# Altium footprint library Connector_PinHeader_2.00mm.PcbLib: 278 footprints (part 12 of 18)
Each footprint in its own frame and in the unit in brackets; x right, y up, seen from the top. Pads: shape width x height; smd on the part's side, far side on the other; paste and mask are expansions set on the pad; w line width, h text height; cw(c..) or ccw(c..) is an arc to the next point about the centre after c.
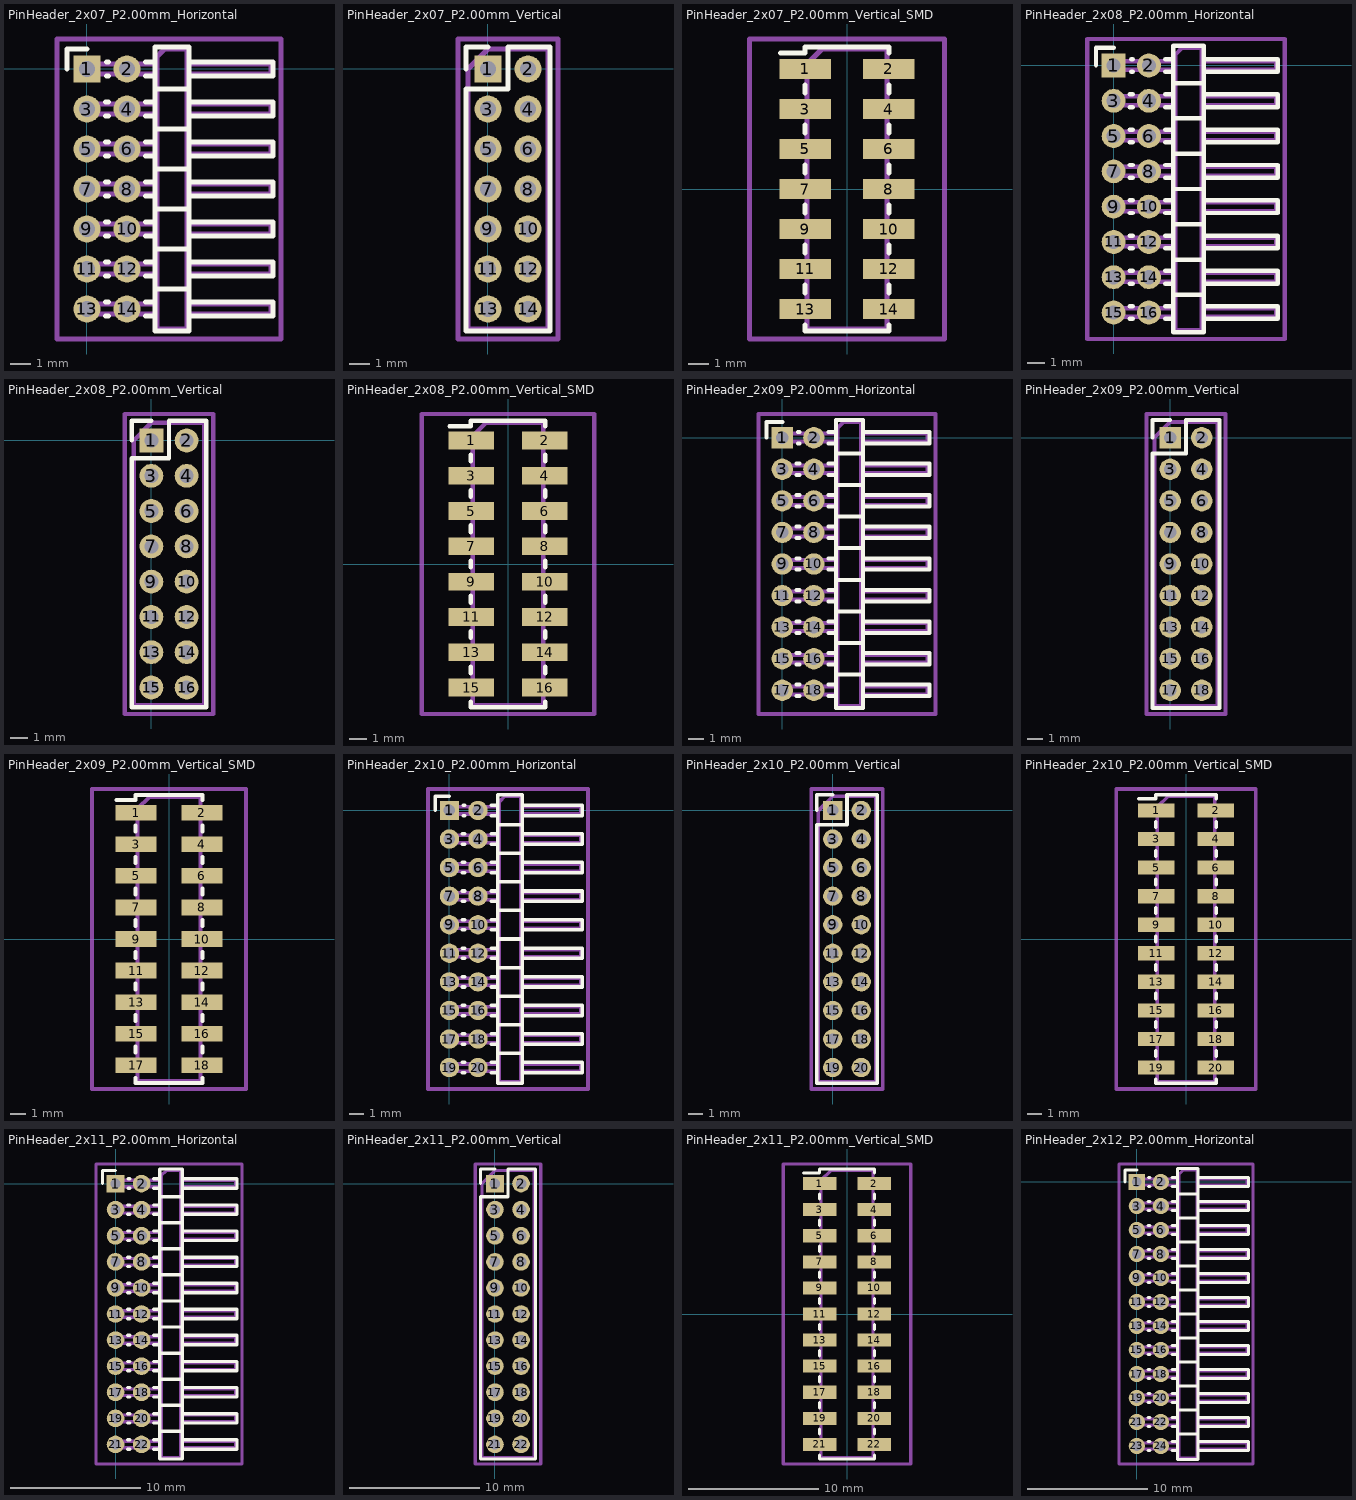
[diagram p11: the footprints below, top view; thin cyan lines are the x and y axes]

## PinHeader_2x07_P2.00mm_Horizontal [mm]
pads (14):
  rect 1.35x1.35 hole 0.8: 1(0,0)
  round 1.35 hole 0.8: 2(2,0) 3(0,-2) 4(2,-2) 5(0,-4) 6(2,-4) 7(0,-6) 8(2,-6) 9(0,-8) 10(2,-8) 11(0,-10) 12(2,-10) 13(0,-12) 14(2,-12)
F.SilkS:
  lines w0.254: -1,0 -1,1 0,1 ; 0.917,-12.36 1.083,-12.36 ; 0.917,-11.64 1.083,-11.64 ; 0.917,-10.36 1.083,-10.36 ; 0.917,-9.64 1.083,-9.64 ; 0.917,-8.36 1.083,-8.36 ; 0.917,-7.64 1.083,-7.64 ; 0.917,-6.36 1.083,-6.36 ; 0.917,-5.64 1.083,-5.64 ; 0.917,-4.36 1.083,-4.36 ; 0.917,-3.64 1.083,-3.64 ; 0.917,-2.36 1.083,-2.36 ; 0.917,-1.64 1.083,-1.64 ; 0.985,-0.36 1.083,-0.36 ; 0.985,0.36 1.083,0.36 ; 2.917,-12.36 3.39,-12.36 ; 2.917,-11.64 3.39,-11.64 ; 2.917,-10.36 3.39,-10.36 ; 2.917,-9.64 3.39,-9.64 ; 2.917,-8.36 3.39,-8.36 ; 2.917,-7.64 3.39,-7.64 ; 2.917,-6.36 3.39,-6.36 ; 2.917,-5.64 3.39,-5.64 ; 2.917,-4.36 3.39,-4.36 ; 2.917,-3.64 3.39,-3.64 ; 2.917,-2.36 3.39,-2.36 ; 2.917,-1.64 3.39,-1.64 ; 2.917,-0.36 3.39,-0.36 ; 2.917,0.36 3.39,0.36 ; 3.39,-11 5.11,-11 ; 3.39,-9 5.11,-9 ; 3.39,-7 5.11,-7 ; 3.39,-5 5.11,-5 ; 3.39,-3 5.11,-3 ; 3.39,-1 5.11,-1 ; 5.11,-12.36 9.31,-12.36 9.31,-11.64 5.11,-11.64 ; 5.11,-10.36 9.31,-10.36 9.31,-9.64 5.11,-9.64 ; 5.11,-8.36 9.31,-8.36 9.31,-7.64 5.11,-7.64 ; 5.11,-6.36 9.31,-6.36 9.31,-5.64 5.11,-5.64 ; 5.11,-4.36 9.31,-4.36 9.31,-3.64 5.11,-3.64 ; 5.11,-2.36 9.31,-2.36 9.31,-1.64 5.11,-1.64 ; 3.39,-13.11 5.11,-13.11 5.11,1.11 3.39,1.11 3.39,-13.11 ; 5.11,-0.36 9.31,-0.36 9.31,0.36 5.11,0.36 5.11,-0.36
Top Assembly:
  lines w0.254: 3.5,-12.25 -0.25,-12.25 -0.25,-11.75 3.5,-11.75 ; 3.5,-10.25 -0.25,-10.25 -0.25,-9.75 3.5,-9.75 ; 3.5,-8.25 -0.25,-8.25 -0.25,-7.75 3.5,-7.75 ; 3.5,-6.25 -0.25,-6.25 -0.25,-5.75 3.5,-5.75 ; 3.5,-4.25 -0.25,-4.25 -0.25,-3.75 3.5,-3.75 ; 3.5,-2.25 -0.25,-2.25 -0.25,-1.75 3.5,-1.75 ; 3.5,-0.25 -0.25,-0.25 -0.25,0.25 3.5,0.25 ; 5,-12.25 9.2,-12.25 9.2,-11.75 5,-11.75 ; 5,-10.25 9.2,-10.25 9.2,-9.75 5,-9.75 ; 5,-8.25 9.2,-8.25 9.2,-7.75 5,-7.75 ; 5,-6.25 9.2,-6.25 9.2,-5.75 5,-5.75 ; 5,-4.25 9.2,-4.25 9.2,-3.75 5,-3.75 ; 5,-2.25 9.2,-2.25 9.2,-1.75 5,-1.75 ; 5,-0.25 9.2,-0.25 9.2,0.25 5,0.25 ; 3.5,-13 5,-13 5,1 3.875,1 3.5,0.625 3.5,-13
  text "'.Designator'" at 5.006,-9.642 h0.9
Top Courtyard:
  lines w0.254: -1.5,-13.5 9.7,-13.5 9.7,1.5 -1.5,1.5 -1.5,-13.5
Top Designator:
  text ".Designator" at -3.518,-6.508 h1.52

## PinHeader_2x07_P2.00mm_Vertical [mm]
pads (14):
  rect 1.35x1.35 hole 0.8: 1(0,0)
  round 1.35 hole 0.8: 2(2,0) 3(0,-2) 4(2,-2) 5(0,-4) 6(2,-4) 7(0,-6) 8(2,-6) 9(0,-8) 10(2,-8) 11(0,-10) 12(2,-10) 13(0,-12) 14(2,-12)
F.SilkS:
  lines w0.254: -1.11,0 -1.11,1.11 0,1.11 ; -1.11,-13.11 3.11,-13.11 3.11,1.11 1,1.11 1,-1 -1.11,-1 -1.11,-13.11
Top Assembly:
  lines w0.254: -1,-13 3,-13 3,1 0,1 -1,0 -1,-13
  text "'.Designator'" at 1.84,-10.047 h1
Top Courtyard:
  lines w0.254: -1.5,-13.5 3.5,-13.5 3.5,1.5 -1.5,1.5 -1.5,-13.5
Top Designator:
  text ".Designator" at -6.618,-6.508 h1.52

## PinHeader_2x07_P2.00mm_Vertical_SMD [mm]
pads (14):
  rect 2.58x1 smd: 1(-2.085,6) 2(2.085,6) 3(-2.085,4) 4(2.085,4) 5(-2.085,2) 6(2.085,2) 7(-2.085,0) 8(2.085,0) 9(-2.085,-2) 10(2.085,-2) 11(-2.085,-4) 12(2.085,-4) 13(-2.085,-6) 14(2.085,-6)
F.SilkS:
  lines w0.254: -3.315,6.81 -2.11,6.81 -2.11,7.11 2.11,7.11 2.11,6.81 ; -2.11,-6.81 -2.11,-7.11 2.11,-7.11 2.11,-6.81 ; -2.11,-5.19 -2.11,-4.81 ; -2.11,-3.19 -2.11,-2.81 ; -2.11,-1.19 -2.11,-0.81 ; -2.11,0.81 -2.11,1.19 ; -2.11,2.81 -2.11,3.19 ; -2.11,4.81 -2.11,5.19 ; 2.11,-5.19 2.11,-4.81 ; 2.11,-3.19 2.11,-2.81 ; 2.11,-1.19 2.11,-0.81 ; 2.11,0.81 2.11,1.19 ; 2.11,2.81 2.11,3.19 ; 2.11,4.81 2.11,5.19
Top Assembly:
  lines w0.254: -2,-6.25 -2.875,-6.25 -2.875,-5.75 -2,-5.75 ; -2,-4.25 -2.875,-4.25 -2.875,-3.75 -2,-3.75 ; -2,-2.25 -2.875,-2.25 -2.875,-1.75 -2,-1.75 ; -2,-0.25 -2.875,-0.25 -2.875,0.25 -2,0.25 ; -2,1.75 -2.875,1.75 -2.875,2.25 -2,2.25 ; -2,3.75 -2.875,3.75 -2.875,4.25 -2,4.25 ; -2,5.75 -2.875,5.75 -2.875,6.25 -2,6.25 ; 2,-6.25 2.875,-6.25 2.875,-5.75 2,-5.75 ; 2,-4.25 2.875,-4.25 2.875,-3.75 2,-3.75 ; 2,-2.25 2.875,-2.25 2.875,-1.75 2,-1.75 ; 2,-0.25 2.875,-0.25 2.875,0.25 2,0.25 ; 2,1.75 2.875,1.75 2.875,2.25 2,2.25 ; 2,3.75 2.875,3.75 2.875,4.25 2,4.25 ; 2,5.75 2.875,5.75 2.875,6.25 2,6.25 ; -2,6.25 -2,-7 2,-7 2,7 -1.25,7 -2,6.25
  text "'.Designator'" at 0.84,-4.047 h1
Top Courtyard:
  lines w0.254: -4.88,-7.5 4.88,-7.5 4.88,7.5 -4.88,7.5 -4.88,-7.5
Top Designator:
  text ".Designator" at -7.618,-0.508 h1.52

## PinHeader_2x08_P2.00mm_Horizontal [mm]
pads (16):
  rect 1.35x1.35 hole 0.8: 1(0,0)
  round 1.35 hole 0.8: 2(2,0) 3(0,-2) 4(2,-2) 5(0,-4) 6(2,-4) 7(0,-6) 8(2,-6) 9(0,-8) 10(2,-8) 11(0,-10) 12(2,-10) 13(0,-12) 14(2,-12) 15(0,-14) 16(2,-14)
F.SilkS:
  lines w0.254: -1,0 -1,1 0,1 ; 0.917,-14.36 1.083,-14.36 ; 0.917,-13.64 1.083,-13.64 ; 0.917,-12.36 1.083,-12.36 ; 0.917,-11.64 1.083,-11.64 ; 0.917,-10.36 1.083,-10.36 ; 0.917,-9.64 1.083,-9.64 ; 0.917,-8.36 1.083,-8.36 ; 0.917,-7.64 1.083,-7.64 ; 0.917,-6.36 1.083,-6.36 ; 0.917,-5.64 1.083,-5.64 ; 0.917,-4.36 1.083,-4.36 ; 0.917,-3.64 1.083,-3.64 ; 0.917,-2.36 1.083,-2.36 ; 0.917,-1.64 1.083,-1.64 ; 0.985,-0.36 1.083,-0.36 ; 0.985,0.36 1.083,0.36 ; 2.917,-14.36 3.39,-14.36 ; 2.917,-13.64 3.39,-13.64 ; 2.917,-12.36 3.39,-12.36 ; 2.917,-11.64 3.39,-11.64 ; 2.917,-10.36 3.39,-10.36 ; 2.917,-9.64 3.39,-9.64 ; 2.917,-8.36 3.39,-8.36 ; 2.917,-7.64 3.39,-7.64 ; 2.917,-6.36 3.39,-6.36 ; 2.917,-5.64 3.39,-5.64 ; 2.917,-4.36 3.39,-4.36 ; 2.917,-3.64 3.39,-3.64 ; 2.917,-2.36 3.39,-2.36 ; 2.917,-1.64 3.39,-1.64 ; 2.917,-0.36 3.39,-0.36 ; 2.917,0.36 3.39,0.36 ; 3.39,-13 5.11,-13 ; 3.39,-11 5.11,-11 ; 3.39,-9 5.11,-9 ; 3.39,-7 5.11,-7 ; 3.39,-5 5.11,-5 ; 3.39,-3 5.11,-3 ; 3.39,-1 5.11,-1 ; 5.11,-14.36 9.31,-14.36 9.31,-13.64 5.11,-13.64 ; 5.11,-12.36 9.31,-12.36 9.31,-11.64 5.11,-11.64 ; 5.11,-10.36 9.31,-10.36 9.31,-9.64 5.11,-9.64 ; 5.11,-8.36 9.31,-8.36 9.31,-7.64 5.11,-7.64 ; 5.11,-6.36 9.31,-6.36 9.31,-5.64 5.11,-5.64 ; 5.11,-4.36 9.31,-4.36 9.31,-3.64 5.11,-3.64 ; 5.11,-2.36 9.31,-2.36 9.31,-1.64 5.11,-1.64 ; 3.39,-15.11 5.11,-15.11 5.11,1.11 3.39,1.11 3.39,-15.11 ; 5.11,-0.36 9.31,-0.36 9.31,0.36 5.11,0.36 5.11,-0.36
Top Assembly:
  lines w0.254: 3.5,-14.25 -0.25,-14.25 -0.25,-13.75 3.5,-13.75 ; 3.5,-12.25 -0.25,-12.25 -0.25,-11.75 3.5,-11.75 ; 3.5,-10.25 -0.25,-10.25 -0.25,-9.75 3.5,-9.75 ; 3.5,-8.25 -0.25,-8.25 -0.25,-7.75 3.5,-7.75 ; 3.5,-6.25 -0.25,-6.25 -0.25,-5.75 3.5,-5.75 ; 3.5,-4.25 -0.25,-4.25 -0.25,-3.75 3.5,-3.75 ; 3.5,-2.25 -0.25,-2.25 -0.25,-1.75 3.5,-1.75 ; 3.5,-0.25 -0.25,-0.25 -0.25,0.25 3.5,0.25 ; 5,-14.25 9.2,-14.25 9.2,-13.75 5,-13.75 ; 5,-12.25 9.2,-12.25 9.2,-11.75 5,-11.75 ; 5,-10.25 9.2,-10.25 9.2,-9.75 5,-9.75 ; 5,-8.25 9.2,-8.25 9.2,-7.75 5,-7.75 ; 5,-6.25 9.2,-6.25 9.2,-5.75 5,-5.75 ; 5,-4.25 9.2,-4.25 9.2,-3.75 5,-3.75 ; 5,-2.25 9.2,-2.25 9.2,-1.75 5,-1.75 ; 5,-0.25 9.2,-0.25 9.2,0.25 5,0.25 ; 3.5,-15 5,-15 5,1 3.875,1 3.5,0.625 3.5,-15
  text "'.Designator'" at 5.006,-10.642 h0.9
Top Courtyard:
  lines w0.254: -1.5,-15.5 9.7,-15.5 9.7,1.5 -1.5,1.5 -1.5,-15.5
Top Designator:
  text ".Designator" at -3.518,-7.508 h1.52

## PinHeader_2x08_P2.00mm_Vertical [mm]
pads (16):
  rect 1.35x1.35 hole 0.8: 1(0,0)
  round 1.35 hole 0.8: 2(2,0) 3(0,-2) 4(2,-2) 5(0,-4) 6(2,-4) 7(0,-6) 8(2,-6) 9(0,-8) 10(2,-8) 11(0,-10) 12(2,-10) 13(0,-12) 14(2,-12) 15(0,-14) 16(2,-14)
F.SilkS:
  lines w0.254: -1.11,0 -1.11,1.11 0,1.11 ; -1.11,-15.11 3.11,-15.11 3.11,1.11 1,1.11 1,-1 -1.11,-1 -1.11,-15.11
Top Assembly:
  lines w0.254: -1,-15 3,-15 3,1 0,1 -1,0 -1,-15
  text "'.Designator'" at 1.84,-11.047 h1
Top Courtyard:
  lines w0.254: -1.5,-15.5 3.5,-15.5 3.5,1.5 -1.5,1.5 -1.5,-15.5
Top Designator:
  text ".Designator" at -6.618,-7.508 h1.52

## PinHeader_2x08_P2.00mm_Vertical_SMD [mm]
pads (16):
  rect 2.58x1 smd: 1(-2.085,7) 2(2.085,7) 3(-2.085,5) 4(2.085,5) 5(-2.085,3) 6(2.085,3) 7(-2.085,1) 8(2.085,1) 9(-2.085,-1) 10(2.085,-1) 11(-2.085,-3) 12(2.085,-3) 13(-2.085,-5) 14(2.085,-5) 15(-2.085,-7) 16(2.085,-7)
F.SilkS:
  lines w0.254: -3.315,7.81 -2.11,7.81 -2.11,8.11 2.11,8.11 2.11,7.81 ; -2.11,-7.81 -2.11,-8.11 2.11,-8.11 2.11,-7.81 ; -2.11,-6.19 -2.11,-5.81 ; -2.11,-4.19 -2.11,-3.81 ; -2.11,-2.19 -2.11,-1.81 ; -2.11,-0.19 -2.11,0.19 ; -2.11,1.81 -2.11,2.19 ; -2.11,3.81 -2.11,4.19 ; -2.11,5.81 -2.11,6.19 ; 2.11,-6.19 2.11,-5.81 ; 2.11,-4.19 2.11,-3.81 ; 2.11,-2.19 2.11,-1.81 ; 2.11,-0.19 2.11,0.19 ; 2.11,1.81 2.11,2.19 ; 2.11,3.81 2.11,4.19 ; 2.11,5.81 2.11,6.19
Top Assembly:
  lines w0.254: -2,-7.25 -2.875,-7.25 -2.875,-6.75 -2,-6.75 ; -2,-5.25 -2.875,-5.25 -2.875,-4.75 -2,-4.75 ; -2,-3.25 -2.875,-3.25 -2.875,-2.75 -2,-2.75 ; -2,-1.25 -2.875,-1.25 -2.875,-0.75 -2,-0.75 ; -2,0.75 -2.875,0.75 -2.875,1.25 -2,1.25 ; -2,2.75 -2.875,2.75 -2.875,3.25 -2,3.25 ; -2,4.75 -2.875,4.75 -2.875,5.25 -2,5.25 ; -2,6.75 -2.875,6.75 -2.875,7.25 -2,7.25 ; 2,-7.25 2.875,-7.25 2.875,-6.75 2,-6.75 ; 2,-5.25 2.875,-5.25 2.875,-4.75 2,-4.75 ; 2,-3.25 2.875,-3.25 2.875,-2.75 2,-2.75 ; 2,-1.25 2.875,-1.25 2.875,-0.75 2,-0.75 ; 2,0.75 2.875,0.75 2.875,1.25 2,1.25 ; 2,2.75 2.875,2.75 2.875,3.25 2,3.25 ; 2,4.75 2.875,4.75 2.875,5.25 2,5.25 ; 2,6.75 2.875,6.75 2.875,7.25 2,7.25 ; -2,7.25 -2,-8 2,-8 2,8 -1.25,8 -2,7.25
  text "'.Designator'" at 0.84,-4.047 h1
Top Courtyard:
  lines w0.254: -4.88,-8.5 4.88,-8.5 4.88,8.5 -4.88,8.5 -4.88,-8.5
Top Designator:
  text ".Designator" at -7.618,-0.508 h1.52

## PinHeader_2x09_P2.00mm_Horizontal [mm]
pads (18):
  rect 1.35x1.35 hole 0.8: 1(0,0)
  round 1.35 hole 0.8: 2(2,0) 3(0,-2) 4(2,-2) 5(0,-4) 6(2,-4) 7(0,-6) 8(2,-6) 9(0,-8) 10(2,-8) 11(0,-10) 12(2,-10) 13(0,-12) 14(2,-12) 15(0,-14) 16(2,-14) 17(0,-16) 18(2,-16)
F.SilkS:
  lines w0.254: -1,0 -1,1 0,1 ; 0.917,-16.36 1.083,-16.36 ; 0.917,-15.64 1.083,-15.64 ; 0.917,-14.36 1.083,-14.36 ; 0.917,-13.64 1.083,-13.64 ; 0.917,-12.36 1.083,-12.36 ; 0.917,-11.64 1.083,-11.64 ; 0.917,-10.36 1.083,-10.36 ; 0.917,-9.64 1.083,-9.64 ; 0.917,-8.36 1.083,-8.36 ; 0.917,-7.64 1.083,-7.64 ; 0.917,-6.36 1.083,-6.36 ; 0.917,-5.64 1.083,-5.64 ; 0.917,-4.36 1.083,-4.36 ; 0.917,-3.64 1.083,-3.64 ; 0.917,-2.36 1.083,-2.36 ; 0.917,-1.64 1.083,-1.64 ; 0.985,-0.36 1.083,-0.36 ; 0.985,0.36 1.083,0.36 ; 2.917,-16.36 3.39,-16.36 ; 2.917,-15.64 3.39,-15.64 ; 2.917,-14.36 3.39,-14.36 ; 2.917,-13.64 3.39,-13.64 ; 2.917,-12.36 3.39,-12.36 ; 2.917,-11.64 3.39,-11.64 ; 2.917,-10.36 3.39,-10.36 ; 2.917,-9.64 3.39,-9.64 ; 2.917,-8.36 3.39,-8.36 ; 2.917,-7.64 3.39,-7.64 ; 2.917,-6.36 3.39,-6.36 ; 2.917,-5.64 3.39,-5.64 ; 2.917,-4.36 3.39,-4.36 ; 2.917,-3.64 3.39,-3.64 ; 2.917,-2.36 3.39,-2.36 ; 2.917,-1.64 3.39,-1.64 ; 2.917,-0.36 3.39,-0.36 ; 2.917,0.36 3.39,0.36 ; 3.39,-15 5.11,-15 ; 3.39,-13 5.11,-13 ; 3.39,-11 5.11,-11 ; 3.39,-9 5.11,-9 ; 3.39,-7 5.11,-7 ; 3.39,-5 5.11,-5 ; 3.39,-3 5.11,-3 ; 3.39,-1 5.11,-1 ; 5.11,-16.36 9.31,-16.36 9.31,-15.64 5.11,-15.64 ; 5.11,-14.36 9.31,-14.36 9.31,-13.64 5.11,-13.64 ; 5.11,-12.36 9.31,-12.36 9.31,-11.64 5.11,-11.64 ; 5.11,-10.36 9.31,-10.36 9.31,-9.64 5.11,-9.64 ; 5.11,-8.36 9.31,-8.36 9.31,-7.64 5.11,-7.64 ; 5.11,-6.36 9.31,-6.36 9.31,-5.64 5.11,-5.64 ; 5.11,-4.36 9.31,-4.36 9.31,-3.64 5.11,-3.64 ; 5.11,-2.36 9.31,-2.36 9.31,-1.64 5.11,-1.64 ; 3.39,-17.11 5.11,-17.11 5.11,1.11 3.39,1.11 3.39,-17.11 ; 5.11,-0.36 9.31,-0.36 9.31,0.36 5.11,0.36 5.11,-0.36
Top Assembly:
  lines w0.254: 3.5,-16.25 -0.25,-16.25 -0.25,-15.75 3.5,-15.75 ; 3.5,-14.25 -0.25,-14.25 -0.25,-13.75 3.5,-13.75 ; 3.5,-12.25 -0.25,-12.25 -0.25,-11.75 3.5,-11.75 ; 3.5,-10.25 -0.25,-10.25 -0.25,-9.75 3.5,-9.75 ; 3.5,-8.25 -0.25,-8.25 -0.25,-7.75 3.5,-7.75 ; 3.5,-6.25 -0.25,-6.25 -0.25,-5.75 3.5,-5.75 ; 3.5,-4.25 -0.25,-4.25 -0.25,-3.75 3.5,-3.75 ; 3.5,-2.25 -0.25,-2.25 -0.25,-1.75 3.5,-1.75 ; 3.5,-0.25 -0.25,-0.25 -0.25,0.25 3.5,0.25 ; 5,-16.25 9.2,-16.25 9.2,-15.75 5,-15.75 ; 5,-14.25 9.2,-14.25 9.2,-13.75 5,-13.75 ; 5,-12.25 9.2,-12.25 9.2,-11.75 5,-11.75 ; 5,-10.25 9.2,-10.25 9.2,-9.75 5,-9.75 ; 5,-8.25 9.2,-8.25 9.2,-7.75 5,-7.75 ; 5,-6.25 9.2,-6.25 9.2,-5.75 5,-5.75 ; 5,-4.25 9.2,-4.25 9.2,-3.75 5,-3.75 ; 5,-2.25 9.2,-2.25 9.2,-1.75 5,-1.75 ; 5,-0.25 9.2,-0.25 9.2,0.25 5,0.25 ; 3.5,-17 5,-17 5,1 3.875,1 3.5,0.625 3.5,-17
  text "'.Designator'" at 5.006,-11.642 h0.9
Top Courtyard:
  lines w0.254: -1.5,-17.5 9.7,-17.5 9.7,1.5 -1.5,1.5 -1.5,-17.5
Top Designator:
  text ".Designator" at -3.518,-8.508 h1.52

## PinHeader_2x09_P2.00mm_Vertical [mm]
pads (18):
  rect 1.35x1.35 hole 0.8: 1(0,0)
  round 1.35 hole 0.8: 2(2,0) 3(0,-2) 4(2,-2) 5(0,-4) 6(2,-4) 7(0,-6) 8(2,-6) 9(0,-8) 10(2,-8) 11(0,-10) 12(2,-10) 13(0,-12) 14(2,-12) 15(0,-14) 16(2,-14) 17(0,-16) 18(2,-16)
F.SilkS:
  lines w0.254: -1.11,0 -1.11,1.11 0,1.11 ; -1.11,-17.11 3.11,-17.11 3.11,1.11 1,1.11 1,-1 -1.11,-1 -1.11,-17.11
Top Assembly:
  lines w0.254: -1,-17 3,-17 3,1 0,1 -1,0 -1,-17
  text "'.Designator'" at 1.84,-12.047 h1
Top Courtyard:
  lines w0.254: -1.5,-17.5 3.5,-17.5 3.5,1.5 -1.5,1.5 -1.5,-17.5
Top Designator:
  text ".Designator" at -6.618,-8.508 h1.52

## PinHeader_2x09_P2.00mm_Vertical_SMD [mm]
pads (18):
  rect 2.58x1 smd: 1(-2.085,8) 2(2.085,8) 3(-2.085,6) 4(2.085,6) 5(-2.085,4) 6(2.085,4) 7(-2.085,2) 8(2.085,2) 9(-2.085,0) 10(2.085,0) 11(-2.085,-2) 12(2.085,-2) 13(-2.085,-4) 14(2.085,-4) 15(-2.085,-6) 16(2.085,-6) 17(-2.085,-8) 18(2.085,-8)
F.SilkS:
  lines w0.254: -3.315,8.81 -2.11,8.81 -2.11,9.11 2.11,9.11 2.11,8.81 ; -2.11,-8.81 -2.11,-9.11 2.11,-9.11 2.11,-8.81 ; -2.11,-7.19 -2.11,-6.81 ; -2.11,-5.19 -2.11,-4.81 ; -2.11,-3.19 -2.11,-2.81 ; -2.11,-1.19 -2.11,-0.81 ; -2.11,0.81 -2.11,1.19 ; -2.11,2.81 -2.11,3.19 ; -2.11,4.81 -2.11,5.19 ; -2.11,6.81 -2.11,7.19 ; 2.11,-7.19 2.11,-6.81 ; 2.11,-5.19 2.11,-4.81 ; 2.11,-3.19 2.11,-2.81 ; 2.11,-1.19 2.11,-0.81 ; 2.11,0.81 2.11,1.19 ; 2.11,2.81 2.11,3.19 ; 2.11,4.81 2.11,5.19 ; 2.11,6.81 2.11,7.19
Top Assembly:
  lines w0.254: -2,-8.25 -2.875,-8.25 -2.875,-7.75 -2,-7.75 ; -2,-6.25 -2.875,-6.25 -2.875,-5.75 -2,-5.75 ; -2,-4.25 -2.875,-4.25 -2.875,-3.75 -2,-3.75 ; -2,-2.25 -2.875,-2.25 -2.875,-1.75 -2,-1.75 ; -2,-0.25 -2.875,-0.25 -2.875,0.25 -2,0.25 ; -2,1.75 -2.875,1.75 -2.875,2.25 -2,2.25 ; -2,3.75 -2.875,3.75 -2.875,4.25 -2,4.25 ; -2,5.75 -2.875,5.75 -2.875,6.25 -2,6.25 ; -2,7.75 -2.875,7.75 -2.875,8.25 -2,8.25 ; 2,-8.25 2.875,-8.25 2.875,-7.75 2,-7.75 ; 2,-6.25 2.875,-6.25 2.875,-5.75 2,-5.75 ; 2,-4.25 2.875,-4.25 2.875,-3.75 2,-3.75 ; 2,-2.25 2.875,-2.25 2.875,-1.75 2,-1.75 ; 2,-0.25 2.875,-0.25 2.875,0.25 2,0.25 ; 2,1.75 2.875,1.75 2.875,2.25 2,2.25 ; 2,3.75 2.875,3.75 2.875,4.25 2,4.25 ; 2,5.75 2.875,5.75 2.875,6.25 2,6.25 ; 2,7.75 2.875,7.75 2.875,8.25 2,8.25 ; -2,8.25 -2,-9 2,-9 2,9 -1.25,9 -2,8.25
  text "'.Designator'" at 0.84,-4.047 h1
Top Courtyard:
  lines w0.254: -4.88,-9.5 4.88,-9.5 4.88,9.5 -4.88,9.5 -4.88,-9.5
Top Designator:
  text ".Designator" at -7.618,-0.508 h1.52

## PinHeader_2x10_P2.00mm_Horizontal [mm]
pads (20):
  rect 1.35x1.35 hole 0.8: 1(0,0)
  round 1.35 hole 0.8: 2(2,0) 3(0,-2) 4(2,-2) 5(0,-4) 6(2,-4) 7(0,-6) 8(2,-6) 9(0,-8) 10(2,-8) 11(0,-10) 12(2,-10) 13(0,-12) 14(2,-12) 15(0,-14) 16(2,-14) 17(0,-16) 18(2,-16) 19(0,-18) 20(2,-18)
F.SilkS:
  lines w0.254: -1,0 -1,1 0,1 ; 0.917,-18.36 1.083,-18.36 ; 0.917,-17.64 1.083,-17.64 ; 0.917,-16.36 1.083,-16.36 ; 0.917,-15.64 1.083,-15.64 ; 0.917,-14.36 1.083,-14.36 ; 0.917,-13.64 1.083,-13.64 ; 0.917,-12.36 1.083,-12.36 ; 0.917,-11.64 1.083,-11.64 ; 0.917,-10.36 1.083,-10.36 ; 0.917,-9.64 1.083,-9.64 ; 0.917,-8.36 1.083,-8.36 ; 0.917,-7.64 1.083,-7.64 ; 0.917,-6.36 1.083,-6.36 ; 0.917,-5.64 1.083,-5.64 ; 0.917,-4.36 1.083,-4.36 ; 0.917,-3.64 1.083,-3.64 ; 0.917,-2.36 1.083,-2.36 ; 0.917,-1.64 1.083,-1.64 ; 0.985,-0.36 1.083,-0.36 ; 0.985,0.36 1.083,0.36 ; 2.917,-18.36 3.39,-18.36 ; 2.917,-17.64 3.39,-17.64 ; 2.917,-16.36 3.39,-16.36 ; 2.917,-15.64 3.39,-15.64 ; 2.917,-14.36 3.39,-14.36 ; 2.917,-13.64 3.39,-13.64 ; 2.917,-12.36 3.39,-12.36 ; 2.917,-11.64 3.39,-11.64 ; 2.917,-10.36 3.39,-10.36 ; 2.917,-9.64 3.39,-9.64 ; 2.917,-8.36 3.39,-8.36 ; 2.917,-7.64 3.39,-7.64 ; 2.917,-6.36 3.39,-6.36 ; 2.917,-5.64 3.39,-5.64 ; 2.917,-4.36 3.39,-4.36 ; 2.917,-3.64 3.39,-3.64 ; 2.917,-2.36 3.39,-2.36 ; 2.917,-1.64 3.39,-1.64 ; 2.917,-0.36 3.39,-0.36 ; 2.917,0.36 3.39,0.36 ; 3.39,-17 5.11,-17 ; 3.39,-15 5.11,-15 ; 3.39,-13 5.11,-13 ; 3.39,-11 5.11,-11 ; 3.39,-9 5.11,-9 ; 3.39,-7 5.11,-7 ; 3.39,-5 5.11,-5 ; 3.39,-3 5.11,-3 ; 3.39,-1 5.11,-1 ; 5.11,-18.36 9.31,-18.36 9.31,-17.64 5.11,-17.64 ; 5.11,-16.36 9.31,-16.36 9.31,-15.64 5.11,-15.64 ; 5.11,-14.36 9.31,-14.36 9.31,-13.64 5.11,-13.64 ; 5.11,-12.36 9.31,-12.36 9.31,-11.64 5.11,-11.64 ; 5.11,-10.36 9.31,-10.36 9.31,-9.64 5.11,-9.64 ; 5.11,-8.36 9.31,-8.36 9.31,-7.64 5.11,-7.64 ; 5.11,-6.36 9.31,-6.36 9.31,-5.64 5.11,-5.64 ; 5.11,-4.36 9.31,-4.36 9.31,-3.64 5.11,-3.64 ; 5.11,-2.36 9.31,-2.36 9.31,-1.64 5.11,-1.64 ; 3.39,-19.11 5.11,-19.11 5.11,1.11 3.39,1.11 3.39,-19.11 ; 5.11,-0.36 9.31,-0.36 9.31,0.36 5.11,0.36 5.11,-0.36
Top Assembly:
  lines w0.254: 3.5,-18.25 -0.25,-18.25 -0.25,-17.75 3.5,-17.75 ; 3.5,-16.25 -0.25,-16.25 -0.25,-15.75 3.5,-15.75 ; 3.5,-14.25 -0.25,-14.25 -0.25,-13.75 3.5,-13.75 ; 3.5,-12.25 -0.25,-12.25 -0.25,-11.75 3.5,-11.75 ; 3.5,-10.25 -0.25,-10.25 -0.25,-9.75 3.5,-9.75 ; 3.5,-8.25 -0.25,-8.25 -0.25,-7.75 3.5,-7.75 ; 3.5,-6.25 -0.25,-6.25 -0.25,-5.75 3.5,-5.75 ; 3.5,-4.25 -0.25,-4.25 -0.25,-3.75 3.5,-3.75 ; 3.5,-2.25 -0.25,-2.25 -0.25,-1.75 3.5,-1.75 ; 3.5,-0.25 -0.25,-0.25 -0.25,0.25 3.5,0.25 ; 5,-18.25 9.2,-18.25 9.2,-17.75 5,-17.75 ; 5,-16.25 9.2,-16.25 9.2,-15.75 5,-15.75 ; 5,-14.25 9.2,-14.25 9.2,-13.75 5,-13.75 ; 5,-12.25 9.2,-12.25 9.2,-11.75 5,-11.75 ; 5,-10.25 9.2,-10.25 9.2,-9.75 5,-9.75 ; 5,-8.25 9.2,-8.25 9.2,-7.75 5,-7.75 ; 5,-6.25 9.2,-6.25 9.2,-5.75 5,-5.75 ; 5,-4.25 9.2,-4.25 9.2,-3.75 5,-3.75 ; 5,-2.25 9.2,-2.25 9.2,-1.75 5,-1.75 ; 5,-0.25 9.2,-0.25 9.2,0.25 5,0.25 ; 3.5,-19 5,-19 5,1 3.875,1 3.5,0.625 3.5,-19
  text "'.Designator'" at 5.006,-12.642 h0.9
Top Courtyard:
  lines w0.254: -1.5,-19.5 9.7,-19.5 9.7,1.5 -1.5,1.5 -1.5,-19.5
Top Designator:
  text ".Designator" at -3.518,-9.508 h1.52

## PinHeader_2x10_P2.00mm_Vertical [mm]
pads (20):
  rect 1.35x1.35 hole 0.8: 1(0,0)
  round 1.35 hole 0.8: 2(2,0) 3(0,-2) 4(2,-2) 5(0,-4) 6(2,-4) 7(0,-6) 8(2,-6) 9(0,-8) 10(2,-8) 11(0,-10) 12(2,-10) 13(0,-12) 14(2,-12) 15(0,-14) 16(2,-14) 17(0,-16) 18(2,-16) 19(0,-18) 20(2,-18)
F.SilkS:
  lines w0.254: -1.11,0 -1.11,1.11 0,1.11 ; -1.11,-19.11 3.11,-19.11 3.11,1.11 1,1.11 1,-1 -1.11,-1 -1.11,-19.11
Top Assembly:
  lines w0.254: -1,-19 3,-19 3,1 0,1 -1,0 -1,-19
  text "'.Designator'" at 1.84,-13.047 h1
Top Courtyard:
  lines w0.254: -1.5,-19.5 3.5,-19.5 3.5,1.5 -1.5,1.5 -1.5,-19.5
Top Designator:
  text ".Designator" at -6.618,-9.508 h1.52

## PinHeader_2x10_P2.00mm_Vertical_SMD [mm]
pads (20):
  rect 2.58x1 smd: 1(-2.085,9) 2(2.085,9) 3(-2.085,7) 4(2.085,7) 5(-2.085,5) 6(2.085,5) 7(-2.085,3) 8(2.085,3) 9(-2.085,1) 10(2.085,1) 11(-2.085,-1) 12(2.085,-1) 13(-2.085,-3) 14(2.085,-3) 15(-2.085,-5) 16(2.085,-5) 17(-2.085,-7) 18(2.085,-7) 19(-2.085,-9) 20(2.085,-9)
F.SilkS:
  lines w0.254: -3.315,9.81 -2.11,9.81 -2.11,10.11 2.11,10.11 2.11,9.81 ; -2.11,-9.81 -2.11,-10.11 2.11,-10.11 2.11,-9.81 ; -2.11,-8.19 -2.11,-7.81 ; -2.11,-6.19 -2.11,-5.81 ; -2.11,-4.19 -2.11,-3.81 ; -2.11,-2.19 -2.11,-1.81 ; -2.11,-0.19 -2.11,0.19 ; -2.11,1.81 -2.11,2.19 ; -2.11,3.81 -2.11,4.19 ; -2.11,5.81 -2.11,6.19 ; -2.11,7.81 -2.11,8.19 ; 2.11,-8.19 2.11,-7.81 ; 2.11,-6.19 2.11,-5.81 ; 2.11,-4.19 2.11,-3.81 ; 2.11,-2.19 2.11,-1.81 ; 2.11,-0.19 2.11,0.19 ; 2.11,1.81 2.11,2.19 ; 2.11,3.81 2.11,4.19 ; 2.11,5.81 2.11,6.19 ; 2.11,7.81 2.11,8.19
Top Assembly:
  lines w0.254: -2,-9.25 -2.875,-9.25 -2.875,-8.75 -2,-8.75 ; -2,-7.25 -2.875,-7.25 -2.875,-6.75 -2,-6.75 ; -2,-5.25 -2.875,-5.25 -2.875,-4.75 -2,-4.75 ; -2,-3.25 -2.875,-3.25 -2.875,-2.75 -2,-2.75 ; -2,-1.25 -2.875,-1.25 -2.875,-0.75 -2,-0.75 ; -2,0.75 -2.875,0.75 -2.875,1.25 -2,1.25 ; -2,2.75 -2.875,2.75 -2.875,3.25 -2,3.25 ; -2,4.75 -2.875,4.75 -2.875,5.25 -2,5.25 ; -2,6.75 -2.875,6.75 -2.875,7.25 -2,7.25 ; -2,8.75 -2.875,8.75 -2.875,9.25 -2,9.25 ; 2,-9.25 2.875,-9.25 2.875,-8.75 2,-8.75 ; 2,-7.25 2.875,-7.25 2.875,-6.75 2,-6.75 ; 2,-5.25 2.875,-5.25 2.875,-4.75 2,-4.75 ; 2,-3.25 2.875,-3.25 2.875,-2.75 2,-2.75 ; 2,-1.25 2.875,-1.25 2.875,-0.75 2,-0.75 ; 2,0.75 2.875,0.75 2.875,1.25 2,1.25 ; 2,2.75 2.875,2.75 2.875,3.25 2,3.25 ; 2,4.75 2.875,4.75 2.875,5.25 2,5.25 ; 2,6.75 2.875,6.75 2.875,7.25 2,7.25 ; 2,8.75 2.875,8.75 2.875,9.25 2,9.25 ; -2,9.25 -2,-10 2,-10 2,10 -1.25,10 -2,9.25
  text "'.Designator'" at 0.84,-4.047 h1
Top Courtyard:
  lines w0.254: -4.88,-10.5 4.88,-10.5 4.88,10.5 -4.88,10.5 -4.88,-10.5
Top Designator:
  text ".Designator" at -7.618,-0.508 h1.52

## PinHeader_2x11_P2.00mm_Horizontal [mm]
pads (22):
  rect 1.35x1.35 hole 0.8: 1(0,0)
  round 1.35 hole 0.8: 2(2,0) 3(0,-2) 4(2,-2) 5(0,-4) 6(2,-4) 7(0,-6) 8(2,-6) 9(0,-8) 10(2,-8) 11(0,-10) 12(2,-10) 13(0,-12) 14(2,-12) 15(0,-14) 16(2,-14) 17(0,-16) 18(2,-16) 19(0,-18) 20(2,-18) 21(0,-20) 22(2,-20)
F.SilkS:
  lines w0.254: -1,0 -1,1 0,1 ; 0.917,-20.36 1.083,-20.36 ; 0.917,-19.64 1.083,-19.64 ; 0.917,-18.36 1.083,-18.36 ; 0.917,-17.64 1.083,-17.64 ; 0.917,-16.36 1.083,-16.36 ; 0.917,-15.64 1.083,-15.64 ; 0.917,-14.36 1.083,-14.36 ; 0.917,-13.64 1.083,-13.64 ; 0.917,-12.36 1.083,-12.36 ; 0.917,-11.64 1.083,-11.64 ; 0.917,-10.36 1.083,-10.36 ; 0.917,-9.64 1.083,-9.64 ; 0.917,-8.36 1.083,-8.36 ; 0.917,-7.64 1.083,-7.64 ; 0.917,-6.36 1.083,-6.36 ; 0.917,-5.64 1.083,-5.64 ; 0.917,-4.36 1.083,-4.36 ; 0.917,-3.64 1.083,-3.64 ; 0.917,-2.36 1.083,-2.36 ; 0.917,-1.64 1.083,-1.64 ; 0.985,-0.36 1.083,-0.36 ; 0.985,0.36 1.083,0.36 ; 2.917,-20.36 3.39,-20.36 ; 2.917,-19.64 3.39,-19.64 ; 2.917,-18.36 3.39,-18.36 ; 2.917,-17.64 3.39,-17.64 ; 2.917,-16.36 3.39,-16.36 ; 2.917,-15.64 3.39,-15.64 ; 2.917,-14.36 3.39,-14.36 ; 2.917,-13.64 3.39,-13.64 ; 2.917,-12.36 3.39,-12.36 ; 2.917,-11.64 3.39,-11.64 ; 2.917,-10.36 3.39,-10.36 ; 2.917,-9.64 3.39,-9.64 ; 2.917,-8.36 3.39,-8.36 ; 2.917,-7.64 3.39,-7.64 ; 2.917,-6.36 3.39,-6.36 ; 2.917,-5.64 3.39,-5.64 ; 2.917,-4.36 3.39,-4.36 ; 2.917,-3.64 3.39,-3.64 ; 2.917,-2.36 3.39,-2.36 ; 2.917,-1.64 3.39,-1.64 ; 2.917,-0.36 3.39,-0.36 ; 2.917,0.36 3.39,0.36 ; 3.39,-19 5.11,-19 ; 3.39,-17 5.11,-17 ; 3.39,-15 5.11,-15 ; 3.39,-13 5.11,-13 ; 3.39,-11 5.11,-11 ; 3.39,-9 5.11,-9 ; 3.39,-7 5.11,-7 ; 3.39,-5 5.11,-5 ; 3.39,-3 5.11,-3 ; 3.39,-1 5.11,-1 ; 5.11,-20.36 9.31,-20.36 9.31,-19.64 5.11,-19.64 ; 5.11,-18.36 9.31,-18.36 9.31,-17.64 5.11,-17.64 ; 5.11,-16.36 9.31,-16.36 9.31,-15.64 5.11,-15.64 ; 5.11,-14.36 9.31,-14.36 9.31,-13.64 5.11,-13.64 ; 5.11,-12.36 9.31,-12.36 9.31,-11.64 5.11,-11.64 ; 5.11,-10.36 9.31,-10.36 9.31,-9.64 5.11,-9.64 ; 5.11,-8.36 9.31,-8.36 9.31,-7.64 5.11,-7.64 ; 5.11,-6.36 9.31,-6.36 9.31,-5.64 5.11,-5.64 ; 5.11,-4.36 9.31,-4.36 9.31,-3.64 5.11,-3.64 ; 5.11,-2.36 9.31,-2.36 9.31,-1.64 5.11,-1.64 ; 3.39,-21.11 5.11,-21.11 5.11,1.11 3.39,1.11 3.39,-21.11 ; 5.11,-0.36 9.31,-0.36 9.31,0.36 5.11,0.36 5.11,-0.36
Top Assembly:
  lines w0.254: 3.5,-20.25 -0.25,-20.25 -0.25,-19.75 3.5,-19.75 ; 3.5,-18.25 -0.25,-18.25 -0.25,-17.75 3.5,-17.75 ; 3.5,-16.25 -0.25,-16.25 -0.25,-15.75 3.5,-15.75 ; 3.5,-14.25 -0.25,-14.25 -0.25,-13.75 3.5,-13.75 ; 3.5,-12.25 -0.25,-12.25 -0.25,-11.75 3.5,-11.75 ; 3.5,-10.25 -0.25,-10.25 -0.25,-9.75 3.5,-9.75 ; 3.5,-8.25 -0.25,-8.25 -0.25,-7.75 3.5,-7.75 ; 3.5,-6.25 -0.25,-6.25 -0.25,-5.75 3.5,-5.75 ; 3.5,-4.25 -0.25,-4.25 -0.25,-3.75 3.5,-3.75 ; 3.5,-2.25 -0.25,-2.25 -0.25,-1.75 3.5,-1.75 ; 3.5,-0.25 -0.25,-0.25 -0.25,0.25 3.5,0.25 ; 5,-20.25 9.2,-20.25 9.2,-19.75 5,-19.75 ; 5,-18.25 9.2,-18.25 9.2,-17.75 5,-17.75 ; 5,-16.25 9.2,-16.25 9.2,-15.75 5,-15.75 ; 5,-14.25 9.2,-14.25 9.2,-13.75 5,-13.75 ; 5,-12.25 9.2,-12.25 9.2,-11.75 5,-11.75 ; 5,-10.25 9.2,-10.25 9.2,-9.75 5,-9.75 ; 5,-8.25 9.2,-8.25 9.2,-7.75 5,-7.75 ; 5,-6.25 9.2,-6.25 9.2,-5.75 5,-5.75 ; 5,-4.25 9.2,-4.25 9.2,-3.75 5,-3.75 ; 5,-2.25 9.2,-2.25 9.2,-1.75 5,-1.75 ; 5,-0.25 9.2,-0.25 9.2,0.25 5,0.25 ; 3.5,-21 5,-21 5,1 3.875,1 3.5,0.625 3.5,-21
  text "'.Designator'" at 5.006,-13.642 h0.9
Top Courtyard:
  lines w0.254: -1.5,-21.5 9.7,-21.5 9.7,1.5 -1.5,1.5 -1.5,-21.5
Top Designator:
  text ".Designator" at -3.518,-10.508 h1.52

## PinHeader_2x11_P2.00mm_Vertical [mm]
pads (22):
  rect 1.35x1.35 hole 0.8: 1(0,0)
  round 1.35 hole 0.8: 2(2,0) 3(0,-2) 4(2,-2) 5(0,-4) 6(2,-4) 7(0,-6) 8(2,-6) 9(0,-8) 10(2,-8) 11(0,-10) 12(2,-10) 13(0,-12) 14(2,-12) 15(0,-14) 16(2,-14) 17(0,-16) 18(2,-16) 19(0,-18) 20(2,-18) 21(0,-20) 22(2,-20)
F.SilkS:
  lines w0.254: -1.11,0 -1.11,1.11 0,1.11 ; -1.11,-21.11 3.11,-21.11 3.11,1.11 1,1.11 1,-1 -1.11,-1 -1.11,-21.11
Top Assembly:
  lines w0.254: -1,-21 3,-21 3,1 0,1 -1,0 -1,-21
  text "'.Designator'" at 1.84,-14.047 h1
Top Courtyard:
  lines w0.254: -1.5,-21.5 3.5,-21.5 3.5,1.5 -1.5,1.5 -1.5,-21.5
Top Designator:
  text ".Designator" at -6.618,-10.508 h1.52

## PinHeader_2x11_P2.00mm_Vertical_SMD [mm]
pads (22):
  rect 2.58x1 smd: 1(-2.085,10) 2(2.085,10) 3(-2.085,8) 4(2.085,8) 5(-2.085,6) 6(2.085,6) 7(-2.085,4) 8(2.085,4) 9(-2.085,2) 10(2.085,2) 11(-2.085,0) 12(2.085,0) 13(-2.085,-2) 14(2.085,-2) 15(-2.085,-4) 16(2.085,-4) 17(-2.085,-6) 18(2.085,-6) 19(-2.085,-8) 20(2.085,-8) 21(-2.085,-10) 22(2.085,-10)
F.SilkS:
  lines w0.254: -3.315,10.81 -2.11,10.81 -2.11,11.11 2.11,11.11 2.11,10.81 ; -2.11,-10.81 -2.11,-11.11 2.11,-11.11 2.11,-10.81 ; -2.11,-9.19 -2.11,-8.81 ; -2.11,-7.19 -2.11,-6.81 ; -2.11,-5.19 -2.11,-4.81 ; -2.11,-3.19 -2.11,-2.81 ; -2.11,-1.19 -2.11,-0.81 ; -2.11,0.81 -2.11,1.19 ; -2.11,2.81 -2.11,3.19 ; -2.11,4.81 -2.11,5.19 ; -2.11,6.81 -2.11,7.19 ; -2.11,8.81 -2.11,9.19 ; 2.11,-9.19 2.11,-8.81 ; 2.11,-7.19 2.11,-6.81 ; 2.11,-5.19 2.11,-4.81 ; 2.11,-3.19 2.11,-2.81 ; 2.11,-1.19 2.11,-0.81 ; 2.11,0.81 2.11,1.19 ; 2.11,2.81 2.11,3.19 ; 2.11,4.81 2.11,5.19 ; 2.11,6.81 2.11,7.19 ; 2.11,8.81 2.11,9.19
Top Assembly:
  lines w0.254: -2,-10.25 -2.875,-10.25 -2.875,-9.75 -2,-9.75 ; -2,-8.25 -2.875,-8.25 -2.875,-7.75 -2,-7.75 ; -2,-6.25 -2.875,-6.25 -2.875,-5.75 -2,-5.75 ; -2,-4.25 -2.875,-4.25 -2.875,-3.75 -2,-3.75 ; -2,-2.25 -2.875,-2.25 -2.875,-1.75 -2,-1.75 ; -2,-0.25 -2.875,-0.25 -2.875,0.25 -2,0.25 ; -2,1.75 -2.875,1.75 -2.875,2.25 -2,2.25 ; -2,3.75 -2.875,3.75 -2.875,4.25 -2,4.25 ; -2,5.75 -2.875,5.75 -2.875,6.25 -2,6.25 ; -2,7.75 -2.875,7.75 -2.875,8.25 -2,8.25 ; -2,9.75 -2.875,9.75 -2.875,10.25 -2,10.25 ; 2,-10.25 2.875,-10.25 2.875,-9.75 2,-9.75 ; 2,-8.25 2.875,-8.25 2.875,-7.75 2,-7.75 ; 2,-6.25 2.875,-6.25 2.875,-5.75 2,-5.75 ; 2,-4.25 2.875,-4.25 2.875,-3.75 2,-3.75 ; 2,-2.25 2.875,-2.25 2.875,-1.75 2,-1.75 ; 2,-0.25 2.875,-0.25 2.875,0.25 2,0.25 ; 2,1.75 2.875,1.75 2.875,2.25 2,2.25 ; 2,3.75 2.875,3.75 2.875,4.25 2,4.25 ; 2,5.75 2.875,5.75 2.875,6.25 2,6.25 ; 2,7.75 2.875,7.75 2.875,8.25 2,8.25 ; 2,9.75 2.875,9.75 2.875,10.25 2,10.25 ; -2,10.25 -2,-11 2,-11 2,11 -1.25,11 -2,10.25
  text "'.Designator'" at 0.84,-4.047 h1
Top Courtyard:
  lines w0.254: -4.88,-11.5 4.88,-11.5 4.88,11.5 -4.88,11.5 -4.88,-11.5
Top Designator:
  text ".Designator" at -7.618,-0.508 h1.52

## PinHeader_2x12_P2.00mm_Horizontal [mm]
pads (24):
  rect 1.35x1.35 hole 0.8: 1(0,0)
  round 1.35 hole 0.8: 2(2,0) 3(0,-2) 4(2,-2) 5(0,-4) 6(2,-4) 7(0,-6) 8(2,-6) 9(0,-8) 10(2,-8) 11(0,-10) 12(2,-10) 13(0,-12) 14(2,-12) 15(0,-14) 16(2,-14) 17(0,-16) 18(2,-16) 19(0,-18) 20(2,-18) 21(0,-20) 22(2,-20) 23(0,-22) 24(2,-22)
F.SilkS:
  lines w0.254: -1,0 -1,1 0,1 ; 0.917,-22.36 1.083,-22.36 ; 0.917,-21.64 1.083,-21.64 ; 0.917,-20.36 1.083,-20.36 ; 0.917,-19.64 1.083,-19.64 ; 0.917,-18.36 1.083,-18.36 ; 0.917,-17.64 1.083,-17.64 ; 0.917,-16.36 1.083,-16.36 ; 0.917,-15.64 1.083,-15.64 ; 0.917,-14.36 1.083,-14.36 ; 0.917,-13.64 1.083,-13.64 ; 0.917,-12.36 1.083,-12.36 ; 0.917,-11.64 1.083,-11.64 ; 0.917,-10.36 1.083,-10.36 ; 0.917,-9.64 1.083,-9.64 ; 0.917,-8.36 1.083,-8.36 ; 0.917,-7.64 1.083,-7.64 ; 0.917,-6.36 1.083,-6.36 ; 0.917,-5.64 1.083,-5.64 ; 0.917,-4.36 1.083,-4.36 ; 0.917,-3.64 1.083,-3.64 ; 0.917,-2.36 1.083,-2.36 ; 0.917,-1.64 1.083,-1.64 ; 0.985,-0.36 1.083,-0.36 ; 0.985,0.36 1.083,0.36 ; 2.917,-22.36 3.39,-22.36 ; 2.917,-21.64 3.39,-21.64 ; 2.917,-20.36 3.39,-20.36 ; 2.917,-19.64 3.39,-19.64 ; 2.917,-18.36 3.39,-18.36 ; 2.917,-17.64 3.39,-17.64 ; 2.917,-16.36 3.39,-16.36 ; 2.917,-15.64 3.39,-15.64 ; 2.917,-14.36 3.39,-14.36 ; 2.917,-13.64 3.39,-13.64 ; 2.917,-12.36 3.39,-12.36 ; 2.917,-11.64 3.39,-11.64 ; 2.917,-10.36 3.39,-10.36 ; 2.917,-9.64 3.39,-9.64 ; 2.917,-8.36 3.39,-8.36 ; 2.917,-7.64 3.39,-7.64 ; 2.917,-6.36 3.39,-6.36 ; 2.917,-5.64 3.39,-5.64 ; 2.917,-4.36 3.39,-4.36 ; 2.917,-3.64 3.39,-3.64 ; 2.917,-2.36 3.39,-2.36 ; 2.917,-1.64 3.39,-1.64 ; 2.917,-0.36 3.39,-0.36 ; 2.917,0.36 3.39,0.36 ; 3.39,-21 5.11,-21 ; 3.39,-19 5.11,-19 ; 3.39,-17 5.11,-17 ; 3.39,-15 5.11,-15 ; 3.39,-13 5.11,-13 ; 3.39,-11 5.11,-11 ; 3.39,-9 5.11,-9 ; 3.39,-7 5.11,-7 ; 3.39,-5 5.11,-5 ; 3.39,-3 5.11,-3 ; 3.39,-1 5.11,-1 ; 5.11,-22.36 9.31,-22.36 9.31,-21.64 5.11,-21.64 ; 5.11,-20.36 9.31,-20.36 9.31,-19.64 5.11,-19.64 ; 5.11,-18.36 9.31,-18.36 9.31,-17.64 5.11,-17.64 ; 5.11,-16.36 9.31,-16.36 9.31,-15.64 5.11,-15.64 ; 5.11,-14.36 9.31,-14.36 9.31,-13.64 5.11,-13.64 ; 5.11,-12.36 9.31,-12.36 9.31,-11.64 5.11,-11.64 ; 5.11,-10.36 9.31,-10.36 9.31,-9.64 5.11,-9.64 ; 5.11,-8.36 9.31,-8.36 9.31,-7.64 5.11,-7.64 ; 5.11,-6.36 9.31,-6.36 9.31,-5.64 5.11,-5.64 ; 5.11,-4.36 9.31,-4.36 9.31,-3.64 5.11,-3.64 ; 5.11,-2.36 9.31,-2.36 9.31,-1.64 5.11,-1.64 ; 3.39,-23.11 5.11,-23.11 5.11,1.11 3.39,1.11 3.39,-23.11 ; 5.11,-0.36 9.31,-0.36 9.31,0.36 5.11,0.36 5.11,-0.36
Top Assembly:
  lines w0.254: 3.5,-22.25 -0.25,-22.25 -0.25,-21.75 3.5,-21.75 ; 3.5,-20.25 -0.25,-20.25 -0.25,-19.75 3.5,-19.75 ; 3.5,-18.25 -0.25,-18.25 -0.25,-17.75 3.5,-17.75 ; 3.5,-16.25 -0.25,-16.25 -0.25,-15.75 3.5,-15.75 ; 3.5,-14.25 -0.25,-14.25 -0.25,-13.75 3.5,-13.75 ; 3.5,-12.25 -0.25,-12.25 -0.25,-11.75 3.5,-11.75 ; 3.5,-10.25 -0.25,-10.25 -0.25,-9.75 3.5,-9.75 ; 3.5,-8.25 -0.25,-8.25 -0.25,-7.75 3.5,-7.75 ; 3.5,-6.25 -0.25,-6.25 -0.25,-5.75 3.5,-5.75 ; 3.5,-4.25 -0.25,-4.25 -0.25,-3.75 3.5,-3.75 ; 3.5,-2.25 -0.25,-2.25 -0.25,-1.75 3.5,-1.75 ; 3.5,-0.25 -0.25,-0.25 -0.25,0.25 3.5,0.25 ; 5,-22.25 9.2,-22.25 9.2,-21.75 5,-21.75 ; 5,-20.25 9.2,-20.25 9.2,-19.75 5,-19.75 ; 5,-18.25 9.2,-18.25 9.2,-17.75 5,-17.75 ; 5,-16.25 9.2,-16.25 9.2,-15.75 5,-15.75 ; 5,-14.25 9.2,-14.25 9.2,-13.75 5,-13.75 ; 5,-12.25 9.2,-12.25 9.2,-11.75 5,-11.75 ; 5,-10.25 9.2,-10.25 9.2,-9.75 5,-9.75 ; 5,-8.25 9.2,-8.25 9.2,-7.75 5,-7.75 ; 5,-6.25 9.2,-6.25 9.2,-5.75 5,-5.75 ; 5,-4.25 9.2,-4.25 9.2,-3.75 5,-3.75 ; 5,-2.25 9.2,-2.25 9.2,-1.75 5,-1.75 ; 5,-0.25 9.2,-0.25 9.2,0.25 5,0.25 ; 3.5,-23 5,-23 5,1 3.875,1 3.5,0.625 3.5,-23
  text "'.Designator'" at 5.006,-14.642 h0.9
Top Courtyard:
  lines w0.254: -1.5,-23.5 9.7,-23.5 9.7,1.5 -1.5,1.5 -1.5,-23.5
Top Designator:
  text ".Designator" at -3.518,-11.508 h1.52